# EAGLE library part NJM2068 (library njr)
LOW-NOISE DUAL OPERATIONAL AMPLIFIER The NJM2068 is a high performance, low noise dual operational amplifier. This amplifier features popular pin-out, superior noise performance, and superior total harmonic distortion. This amplifier also features guaranteed noise performance with substantially higher gain-bandwidth product and slew rate, which far exceeds that of the 4558 type amplifier. The specially designed low noise input transistors allow the NJM2068 to be used in very low noise signal processing applications such as audio preamplifiers and servo error amplifier.
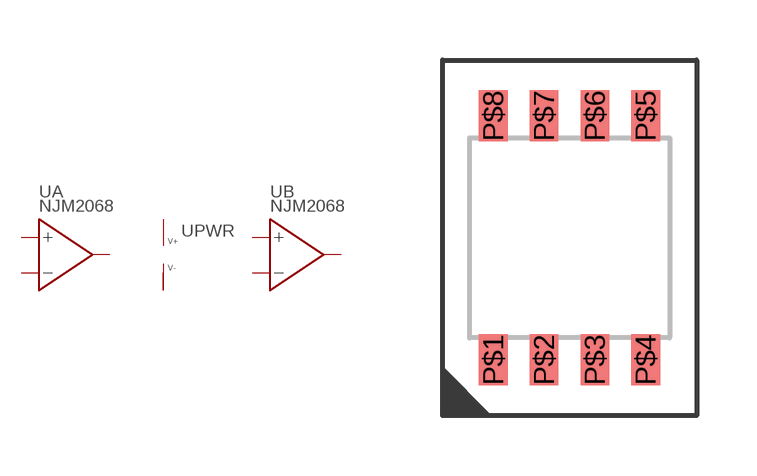
[diagram p1: symbol with the pads of DMP8; footprint DMP8]

Designator prefix U; gates A=OPAMP B=OPAMP PWR=V-+

## NJM2068M  [DMP8]
P$1  A:OUT  out
P$2  A:-IN  in
P$3  A:+IN  in
P$4  PWR:V-  pwr
P$5  B:+IN  in
P$6  B:-IN  in
P$7  B:OUT  out
P$8  PWR:V+  pwr

## Footprint DMP8 (pad centres in mm)
smd 0.72 x 1.27: P$1 -1.905,-3.05; P$2 -0.635,-3.05; P$3 0.635,-3.05; P$4 1.905,-3.05; P$5 1.905,3.05; P$6 0.635,3.05; P$7 -0.635,3.05; P$8 -1.905,3.05